# EAGLE library part VOD3120AD (library VOD3120AD)
Gate Drivers IGBT & MOSFET Drvr uL, cUL, CQC DIP-8 Source: Datasheet <https://componentsearchengine.com/Datasheets/2/VOD3120AD.pdf>
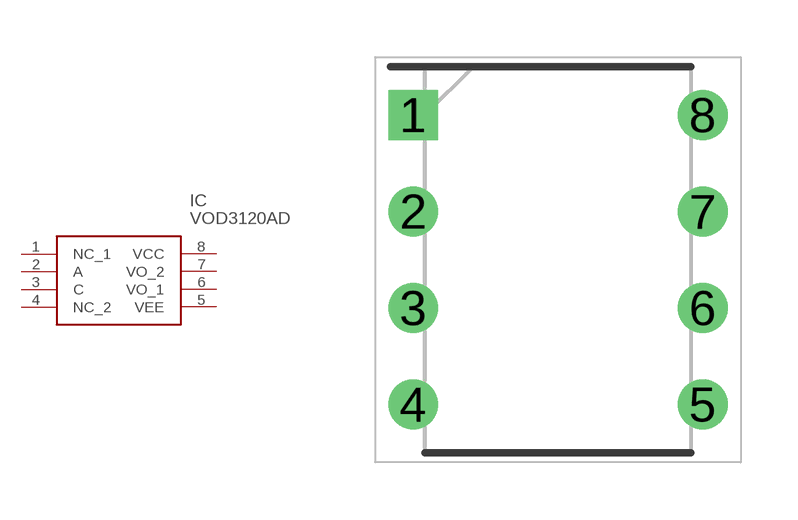
[diagram p0: symbol with the pads of DIP762W60P254L968H450Q8N; footprint DIP762W60P254L968H450Q8N]

Designator prefix IC

## VOD3120AD (Description: Gate Drivers IGBT & MOSFET Drvr uL, cUL, CQC DIP-8; Height: 4.5mm; Manufacturer_Name: Vishay; Manufacturer_Part_Number: VOD3120AD; Mouser_Part_Number: 78-VOD3120AD; Mouser_Price-Stock: https://www.mouser.co.uk/ProductDetail/Vishay-Semiconductors/VOD3120AD?qs=l7cgNqFNU1hxBq1Lv%2FY4fQ%3D%3D)  [DIP762W60P254L968H450Q8N]
1  NC_1
2  A
3  C
4  NC_2
5  VEE
6  VO_1
7  VO_2
8  VCC

## Footprint DIP762W60P254L968H450Q8N (pad centres in mm)
DIP-8 (H=4.5mm)
drill 0.8 pad 1.2 square: 1 -3.81,3.81
drill 0.8 pad 1.2: 2 -3.81,1.27; 3 -3.81,-1.27; 4 -3.81,-3.81; 5 3.81,-3.81; 6 3.81,-1.27; 7 3.81,1.27; 8 3.81,3.81